# EAGLE library part 6250XX22121_62505022121 (library Wurth_Connectors_WR-BHD)
WR-BHD 2.00 mm Male Angled Box Header w. Lever KIND PROPERTIES: Pitch 2 mm Gender:Male MATERIAL PROPERTIES: Insulator Material:PBT Insulator Flammability Rating UL94 V-0 Insulator Color:Black Contact Material :Copper Alloy Contact Plating :Gold Contact Type: Stamped GENERAL INFORMATION: Operating Temperature:-40 °C up to +125 °C Compliance:RoHS Working Voltage: 250 V (AC) Withstanding Voltage:500 V (AC) Contact Resistance: 20 mΩ Insulation Resistance:1000 MΩ CERTIFICATION UL Approval:E323964 PACKAGING PROPERTIES Packaging :Tray <https://www.we-online.de/katalog/media/o32938v209%20Family_WR-BHD_6250xx22121.jpg> Details see: https://www.we-online.de/katalog/en/em/BHD_2_00_MALE_ANGLED_BOX_HEADER_WITH_LEVER_6250XX22121 Updated by Yingchun,Shan 2019-11-04 2019 (C) Würth Elektronik
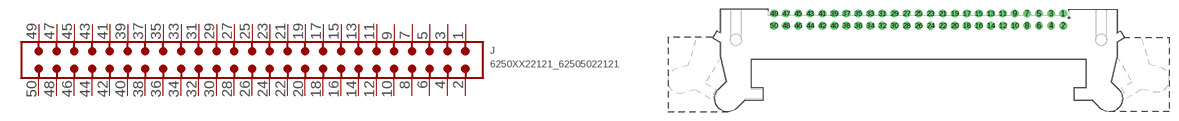
[diagram p207: symbol with the pads of 62505022121; footprint 62505022121]

Designator prefix J

## 6250XX22121_62505022121 (CONTACT-RESISTANCE: 20mOhm; DATASHEET-URL: https://www.we-online.com/redexpert/spec/62505022121?ae; GENDER: Male; IR: 2A; LENGTH: 65.7mm; MOUNT: THT; PACKAGING: Tray; PART-NUMBER: 62505022121; PINS: 50; PITCH: 2mm; TYPE: Angled; VALUE: 62505022121; WORKING-VOLTAGE: 250V(AC))  [62505022121]
1  1  pas
2  2  pas
3  3  pas
4  4  pas
5  5  pas
6  6  pas
7  7  pas
8  8  pas
9  9  pas
10  10  pas
11  11  pas
12  12  pas
13  13  pas
14  14  pas
15  15  pas
16  16  pas
17  17  pas
18  18  pas
19  19  pas
20  20  pas
21  21  pas
22  22  pas
23  23  pas
24  24  pas
25  25  pas
26  26  pas
27  27  pas
28  28  pas
29  29  pas
30  30  pas
31  31  pas
32  32  pas
33  33  pas
34  34  pas
35  35  pas
36  36  pas
37  37  pas
38  38  pas
39  39  pas
40  40  pas
41  41  pas
42  42  pas
43  43  pas
44  44  pas
45  45  pas
46  46  pas
47  47  pas
48  48  pas
49  49  pas
50  50  pas

## Footprint 62505022121 (pad centres in mm)
WR-BHD 2.00 mm Male Angled Box Header w. Lever,50 pins
drill 0.8: 1 24,3.4; 2 24,1.4; 3 22,3.4; 4 22,1.4; 5 20,3.4; 6 20,1.4; 7 18,3.4; 8 18,1.4; 9 16,3.4; 10 16,1.4; 11 14,3.4; 12 14,1.4; 13 12,3.4; 14 12,1.4; 15 10,3.4; 16 10,1.4; 17 8,3.4; 18 8,1.4; 19 6,3.4; 20 6,1.4; 21 4,3.4; 22 4,1.4; 23 2,3.4; 24 2,1.4; 25 0,3.4; 26 0,1.4; 27 -2,3.4; 28 -2,1.4; 29 -4,3.4; 30 -4,1.4; 31 -6,3.4; 32 -6,1.4; 33 -8,3.4; 34 -8,1.4; 35 -10,3.4; 36 -10,1.4; 37 -12,3.4; 38 -12,1.4; 39 -14,3.4; 40 -14,1.4; 41 -16,3.4; 42 -16,1.4; 43 -18,3.4; 44 -18,1.4; 45 -20,3.4; 46 -20,1.4; 47 -22,3.4; 48 -22,1.4; 49 -24,3.4; 50 -24,1.4